# Altium footprint library vibration_motors.PcbLib: 2 footprints
Each footprint in its own frame and in the unit in brackets; x right, y up, seen from the top. Pads: shape width x height; smd on the part's side, far side on the other; paste and mask are expansions set on the pad; w line width, h text height; cw(c..) or ccw(c..) is an arc to the next point about the centre after c.
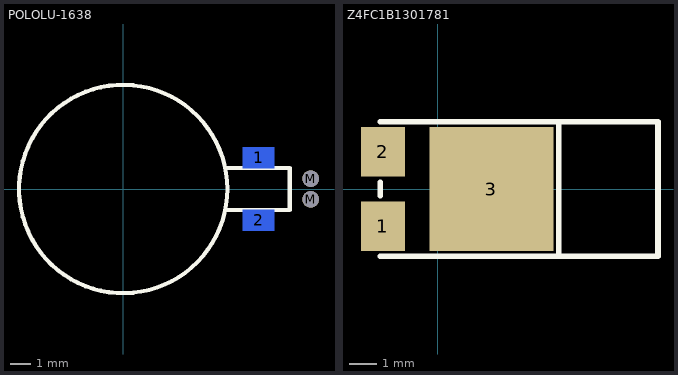
[diagram p0: the footprints below, top view; thin cyan lines are the x and y axes]

## POLOLU-1638 [mm]
pads (4):
  rect 1.5x1 smd far side: 1(6.5,1.5) 2(6.5,-1.5)
  round 0.8 hole 0.8: M(9,-0.5) M(9,0.5)
Top Overlay:
  circle w0.2: c0,0 r5
  lines w0.2: 5,-1 8,-1 8,1 5,1
3D body: height 1, standoff 0, extent 4,-1 8,1
3D body: height 2, standoff 0, extent -4.96,-4.99 5,4.99

## Z4FC1B1301781 [mm] "3.0V DC Vibration Motor"
height 4.85
pads (3):
  rect 1.6x1.8 smd: 1(-2,-1.35) 2(-2,1.35)
  rect 4.5x4.5 smd: 3(1.95,0)
Top Overlay:
  lines w0.2: -2.1,-2.45 4.4,-2.45 ; -2.1,-0.25 -2.1,0.25 ; -2.1,2.45 4.4,2.45 ; 4.4,-2.45 8,-2.45 8,2.45 4.4,2.45 ; 4.4,-2.45 4.4,2.45
3D body: height 4.85, standoff 0, extent -2,-2.35 4.3,2.35